# Altium schematic symbol library Module.DC-DC.SchLib: 10 symbols
Pins are listed as number, name and electrical type; pins without a type are passive.

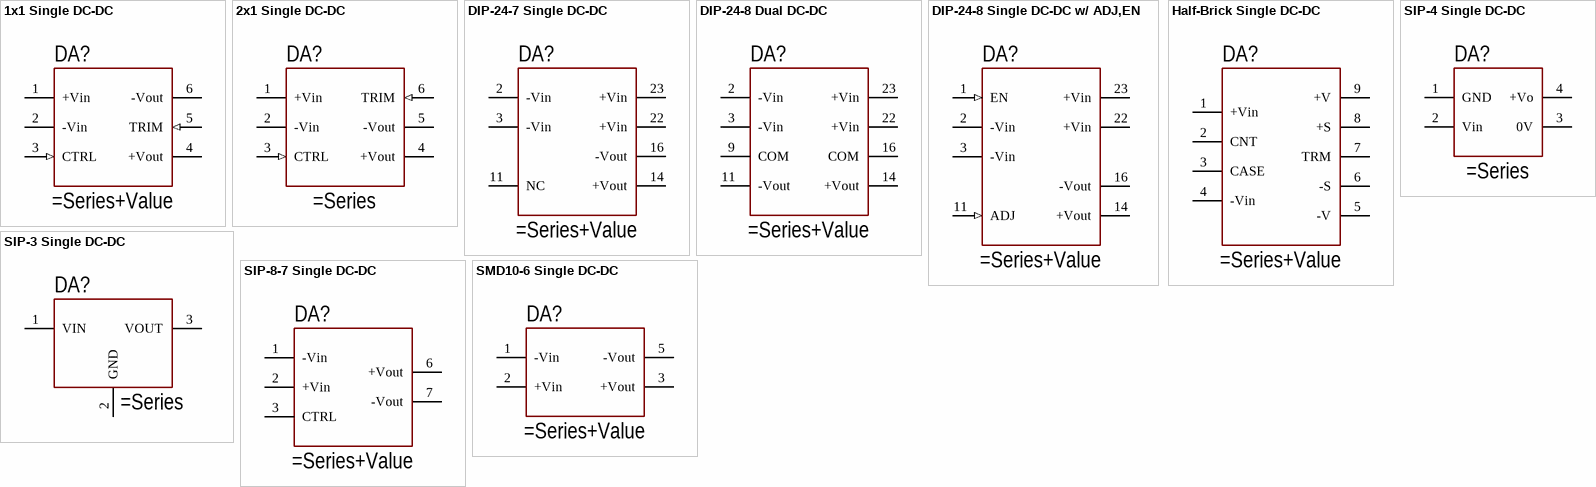
[diagram p0: symbols 1x1 Single DC-DC to SMD10-6 Single DC-DC]

## 1x1 Single DC-DC
designator DA?
1x1 DC-DC Converter Schematic Symbol
pins: 1 +Vin, 2 -Vin, 3 CTRL (in), 4 +Vout, 5 TRIM (in), 6 -Vout

## 2x1 Single DC-DC
designator DA?
2x1 DC-DC Converter Schematic Symbol
pins: 1 +Vin, 2 -Vin, 3 CTRL (in), 4 +Vout, 5 -Vout, 6 TRIM (in)

## DIP-24-7 Single DC-DC
designator DA?
DIP-24-7 Single DC-DC Module Schematic Symbol
pins: 2 -Vin, 3 -Vin, 11 NC, 14 +Vout, 16 -Vout, 22 +Vin, 23 +Vin

## DIP-24-8 Dual DC-DC
designator DA?
DIP-24-8 Dual DC-DC Module Schematic Symbol
pins: 2 -Vin, 3 -Vin, 9 COM, 11 -Vout, 14 +Vout, 16 COM, 22 +Vin, 23 +Vin

## DIP-24-8 Single DC-DC w/ ADJ,EN
designator DA?
DIP-24-8 Single DC-DC Module with ADJ and EN input Schematic Symbol
pins: 1 EN (in), 2 -Vin, 3 -Vin, 11 ADJ (in), 14 +Vout, 16 -Vout, 22 +Vin, 23 +Vin

## Half-Brick Single DC-DC
designator DA?
Half-Brick Single DC-DC Converter
pins: 1 +Vin, 2 CNT, 3 CASE, 4 -Vin, 5 -V, 6 -S, 7 TRM, 8 +S, 9 +V

## SIP-3 Single DC-DC
designator DA?
SIP-3 Single DC-DC Converter
pins: 1 VIN, 2 GND, 3 VOUT

## SIP-4 Single DC-DC
designator DA?
SIP-4 Single DC-DC Converter
pins: 1 GND, 2 Vin, 3 0V, 4 +Vo

## SIP-8-7 Single DC-DC
designator DA?
SIP-8-7 Single DC-DC Module Schematic Symbol
pins: 1 -Vin, 2 +Vin, 3 CTRL, 5 hidden, 6 +Vout, 7 -Vout, 8 hidden

## SMD10-6 Single DC-DC
designator DA?
SMD10-6 Single DC-DC Module
pins: 1 -Vin, 2 +Vin, 3 +Vout, 5 -Vout